# Altium schematic symbol library 7seg(LED).SchLib: 34 symbols
Pins are listed as number, name and electrical type; pins without a type are passive.

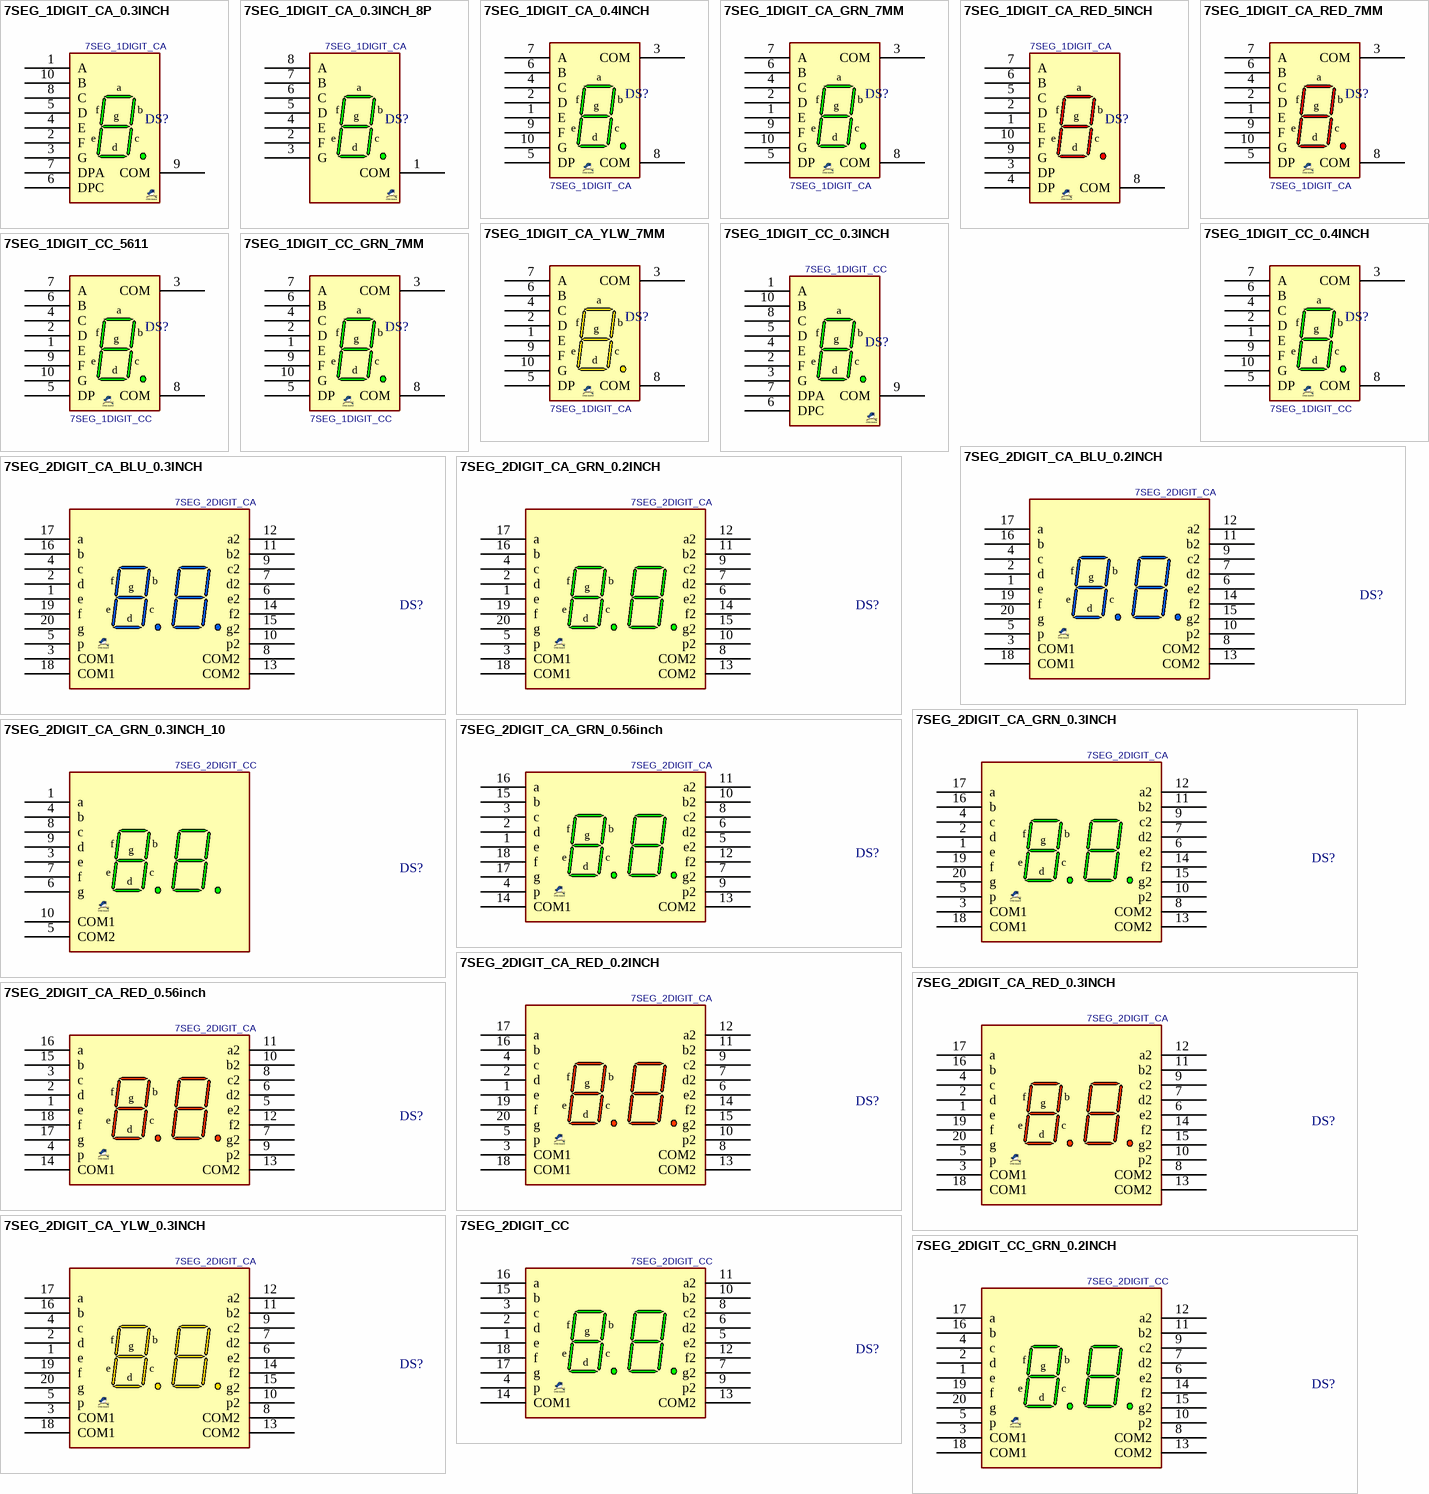
[diagram p0: symbols 7SEG_1DIGIT_CA_0.3INCH to 7SEG_2DIGIT_CC_GRN_0.2INCH]

## 7SEG_1DIGIT_CA_0.3INCH
designator DS?, comment 7SEG_1DIGIT_CA
7SEGMENT, 1DIGIT, common anode; MANF_P#: LA-301; VALUE: 7SEG_1DIGIT_CA
footprint 7SEGX1_10_2811 (7SEG single 10pin Pitch: 2.54mm  2811 0.28" 8X10mm)
pins: 1 A, 2 F, 3 G, 4 E, 5 D, 6 DPC, 7 DPA, 8 C, 9 COM, 10 B
2 alternate drawings of the same symbol

## 7SEG_1DIGIT_CA_0.3INCH_8P
designator DS?, comment 7SEG_1DIGIT_CA
7SEGMENT, 1DIGIT, common anode, 8pin; MANF_P#: 2811, 2181; VALUE: 7SEG_1DIGIT_CA
footprint 7SEGX1_8_2811 (7SEG single 8pin Pitch: 2.54mm  2811 0.28" 8X10mm)
pins: 1 COM, 2 F, 3 G, 4 E, 5 D, 6 C, 7 B, 8 A
2 alternate drawings of the same symbol

## 7SEG_1DIGIT_CA_0.4INCH
designator DS?, comment 7SEG_1DIGIT_CA
7SEGMENT, 1DIGIT, common Anode; VALUE: 7SEG_1DIGIT_CA
footprint 7SEGX1_10_3911 (7SEG single 10pin Pitch: 2.54mm  3911 0.39" 10X13mm)
pins: 1 E, 2 D, 3 COM, 4 C, 5 DP, 6 B, 7 A, 8 COM, 9 F, 10 G
2 alternate drawings of the same symbol

## 7SEG_1DIGIT_CA_GRN_7MM
designator DS?, comment 7SEG_1DIGIT_CA
7SEGMENT, 1DIGIT, common ANODE; MANF: Kingbright; MANF_P#: ACSA02-41SGWA-F01; PARAM: 20mA, 2.2v, -40~85oC; PRICE: 2.5$; VALUE: 7SEG_1DIGIT_CA
footprint 7SEGX1_10_02INCH (7SEG single 10pin Pitch: 1.44mm  0.2" 10X7mm)
pins: 1 E, 2 D, 3 COM, 4 C, 5 DP, 6 B, 7 A, 8 COM, 9 F, 10 G
2 alternate drawings of the same symbol

## 7SEG_1DIGIT_CA_RED_5INCH
designator DS?, comment 7SEG_1DIGIT_CA
7SEGMENT, 1DIGIT, common ANODE; MANF: Kingbright; MANF_P#: SA50-31SRWA, SA50-21EWA, SNS-50101BSR; PARAM2: 18.5~25VF; PARAM: 20mA, -40~85oC; PRICE: 30000t, 27$; VALUE: 7SEG_1DIGIT_CA
footprint 7SEGX1_5INCH (7SEG single 5INCH, 10pin, Pitch: 5.08mm, 180X108mm)
pins: 1 E, 2 D, 3 DP, 4 DP, 5 C, 6 B, 7 A, 8 COM, 9 G, 10 F
2 alternate drawings of the same symbol

## 7SEG_1DIGIT_CA_RED_7MM
designator DS?, comment 7SEG_1DIGIT_CA
7SEGMENT, 1DIGIT, common ANODE; MANF: Kingbright; MANF_P#: ACSC02-41SURKWA-F01, ACSA02-41SURKWA-F01, ACSA02-41EWA-F01; PARAM: 30mA, 2v, -40~85oC; PRICE: 2.5$; VALUE: 7SEG_1DIGIT_CA
footprint 7SEGX1_10_02INCH (7SEG single 10pin Pitch: 1.44mm  0.2" 10X7mm)
pins: 1 E, 2 D, 3 COM, 4 C, 5 DP, 6 B, 7 A, 8 COM, 9 F, 10 G
2 alternate drawings of the same symbol

## 7SEG_1DIGIT_CA_YLW_7MM
designator DS?, comment 7SEG_1DIGIT_CA
7SEGMENT, 1DIGIT, common ANODE; MANF: Kingbright; MANF_P#: ACSA02-41YWA-F01; PARAM: 20mA, 2.2v, -40~85oC; PRICE: 2.5$; VALUE: 7SEG_1DIGIT_CA
footprint 7SEGX1_10_02INCH (7SEG single 10pin Pitch: 1.44mm  0.2" 10X7mm)
pins: 1 E, 2 D, 3 COM, 4 C, 5 DP, 6 B, 7 A, 8 COM, 9 F, 10 G
2 alternate drawings of the same symbol

## 7SEG_1DIGIT_CC_0.3INCH
designator DS?, comment 7SEG_1DIGIT_CC
7SEGMENT, 1DIGIT, common cothode; VALUE: 7SEG_1DIGIT_CC
footprint 7SEGX1_10_2811 (7SEG single 10pin Pitch: 2.54mm  2811 0.28" 8X10mm)
pins: 1 A, 2 F, 3 G, 4 E, 5 D, 6 DPC, 7 DPA, 8 C, 9 COM, 10 B
2 alternate drawings of the same symbol

## 7SEG_1DIGIT_CC_0.4INCH
designator DS?, comment 7SEG_1DIGIT_CC
7SEGMENT, 1DIGIT, common cathode; VALUE: 7SEG_1DIGIT_CC
footprint 7SEGX1_10_3911 (7SEG single 10pin Pitch: 2.54mm  3911 0.39" 10X13mm)
pins: 1 E, 2 D, 3 COM, 4 C, 5 DP, 6 B, 7 A, 8 COM, 9 F, 10 G
2 alternate drawings of the same symbol

## 7SEG_1DIGIT_CC_5611
designator DS?, comment 7SEG_1DIGIT_CC
7SEGMENT, 1DIGIT, common cathode; VALUE: 7SEG_1DIGIT_CC
footprint 7SEGX1_5611 (7SEG single 10pin Pitch: 2.54mm  19X12.5mm)
pins: 1 E, 2 D, 3 COM, 4 C, 5 DP, 6 B, 7 A, 8 COM, 9 F, 10 G
2 alternate drawings of the same symbol

## 7SEG_1DIGIT_CC_GRN_7MM
designator DS?, comment 7SEG_1DIGIT_CC
7SEGMENT, 1DIGIT, common cathode; MANF: Kingbright; MANF_P#: ACSC02-41SGWA-F01, ACSC02-41CGKWA-F01; PARAM: 20mA, 2.2v, -40~85oC; PRICE: 2.5$; VALUE: 7SEG_1DIGIT_CC
footprint 7SEGX1_10_02INCH (7SEG single 10pin Pitch: 1.44mm  0.2" 10X7mm)
pins: 1 E, 2 D, 3 COM, 4 C, 5 DP, 6 B, 7 A, 8 COM, 9 F, 10 G
2 alternate drawings of the same symbol

## 7SEG_2DIGIT_CA_BLU_0.2INCH
designator DS?, comment 7SEG_2DIGIT_CA
7SEGMENT, 2DIGIT, common Anode; MANF: Kingbright; MANF_P#: ACDA02-41PBWA/A-F01; PARAM: 20mA, 3.2V, -40~85oC; PRICE: 7.6$; VALUE: 7SEG_2DIGIT_CA
footprint 7SEGX2_20_02INCH (7SEG 2DIGIT 20pin Pitch: 1.44mm  0.2", 14X10mm)
pins: 1 e, 2 d, 3 COM1, 4 c, 5 p, 6 e2, 7 d2, 8 COM2, 9 c2, 10 p2, 11 b2, 12 a2, 13 COM2, 14 f2, 15 g2, 16 b, 17 a, 18 COM1, 19 f, 20 g

## 7SEG_2DIGIT_CA_BLU_0.3INCH
designator DS?, comment 7SEG_2DIGIT_CA
7SEGMENT, 2DIGIT, common Anode; MANF: Kingbright; MANF_P#: ACDA03-41PBWA/A-F01; PARAM: 10~20mA, 2~2.2V, -40~85oC; PRICE: 7.6$; VALUE: 7SEG_2DIGIT_CA
footprint 7SEGX2_20_03INCH (7SEG 2DIGIT 20pin Pitch: 1.44mm  0.3", 14.8X12mm)
pins: 1 e, 2 d, 3 COM1, 4 c, 5 p, 6 e2, 7 d2, 8 COM2, 9 c2, 10 p2, 11 b2, 12 a2, 13 COM2, 14 f2, 15 g2, 16 b, 17 a, 18 COM1, 19 f, 20 g

## 7SEG_2DIGIT_CA_GRN_0.2INCH
designator DS?, comment 7SEG_2DIGIT_CA
7SEGMENT, 2DIGIT, common Anode; MANF: Kingbright; MANF_P#: ACDA02-41SGWA-F01; PARAM: 10~20mA, 2~2.2V, -40~85oC; PRICE: 3.3$; VALUE: 7SEG_2DIGIT_CA
footprint 7SEGX2_20_02INCH (7SEG 2DIGIT 20pin Pitch: 1.44mm  0.2", 14X10mm)
pins: 1 e, 2 d, 3 COM1, 4 c, 5 p, 6 e2, 7 d2, 8 COM2, 9 c2, 10 p2, 11 b2, 12 a2, 13 COM2, 14 f2, 15 g2, 16 b, 17 a, 18 COM1, 19 f, 20 g

## 7SEG_2DIGIT_CA_GRN_0.3INCH
designator DS?, comment 7SEG_2DIGIT_CA
7SEGMENT, 2DIGIT, common Anode; MANF: Kingbright; MANF_P#: ACDA03-41SGWA-F01; PARAM: 10~20mA, 2~2.2V, -40~85oC; PRICE: 5.8$; VALUE: 7SEG_2DIGIT_CA
footprint 7SEGX2_20_03INCH (7SEG 2DIGIT 20pin Pitch: 1.44mm  0.3", 14.8X12mm)
pins: 1 e, 2 d, 3 COM1, 4 c, 5 p, 6 e2, 7 d2, 8 COM2, 9 c2, 10 p2, 11 b2, 12 a2, 13 COM2, 14 f2, 15 g2, 16 b, 17 a, 18 COM1, 19 f, 20 g

## 7SEG_2DIGIT_CA_GRN_0.3INCH_10
designator DS?, comment 7SEG_2DIGIT_CC
7SEGMENT, 2DIGIT, common cathode; MANF: Kingbright; MANF_P#: DA03-11GWA; PARAM: 10~20mA, 2~2.2V, -40~85oC; PRICE: 1.8$; VALUE: 7SEG_2DIGIT_CC
footprint 7SEGX2_10_03INCH (7SEG 2DIGIT 10pin Pitch: 2.54mm  0.3", 15.5X15mm)
pins: 1 a, 3 e, 4 b, 5 COM2, 6 g, 7 f, 8 c, 9 d, 10 COM1

## 7SEG_2DIGIT_CA_GRN_0.56inch
designator DS?, comment 7SEG_2DIGIT_CA
7SEGMENT, 2DIGIT, common Anode; MANF: Broadcom, Avago, Lite-On, Kingbright; MANF_P#: HDSP-521G, LTD-6410G, DA56-11GWA; PARAM: 10~20mA, 2~2.2V, -35~85oC; PRICE: 2$; VALUE: 7SEG_2DIGIT_CA
footprint 7SEGX2_16 (7SEG 2DIGIT 16pin Pitch: 2.54mm    5621 0.56", 19X25mm)
pins: 1 e, 2 d, 3 c, 4 p, 5 e2, 6 d2, 7 g2, 8 c2, 9 p2, 10 b2, 11 a2, 12 f2, 13 COM2, 14 COM1, 15 b, 16 a, 17 g, 18 f

## 7SEG_2DIGIT_CA_RED_0.2INCH
designator DS?, comment 7SEG_2DIGIT_CA
7SEGMENT, 2DIGIT, common cathode; MANF: Kingbright; MANF_P#: ACDA02-41EWA-F01, ACDA02-41SURKWA-F01; PARAM: 10~20mA, 2~2.2V, -40~85oC; PRICE: 4.3$; VALUE: 7SEG_2DIGIT_CA
footprint 7SEGX2_20_02INCH (7SEG 2DIGIT 20pin Pitch: 1.44mm  0.2", 14X10mm)
pins: 1 e, 2 d, 3 COM1, 4 c, 5 p, 6 e2, 7 d2, 8 COM2, 9 c2, 10 p2, 11 b2, 12 a2, 13 COM2, 14 f2, 15 g2, 16 b, 17 a, 18 COM1, 19 f, 20 g

## 7SEG_2DIGIT_CA_RED_0.3INCH
designator DS?, comment 7SEG_2DIGIT_CA
7SEGMENT, 2DIGIT, common Anode; MANF: Kingbright; MANF_P#: ACDA03-41EWA-F01; PARAM: 10~20mA, 2~2.2V, -40~85oC; PRICE: 5.6$; VALUE: 7SEG_2DIGIT_CA
footprint 7SEGX2_20_03INCH (7SEG 2DIGIT 20pin Pitch: 1.44mm  0.3", 14.8X12mm)
pins: 1 e, 2 d, 3 COM1, 4 c, 5 p, 6 e2, 7 d2, 8 COM2, 9 c2, 10 p2, 11 b2, 12 a2, 13 COM2, 14 f2, 15 g2, 16 b, 17 a, 18 COM1, 19 f, 20 g

## 7SEG_2DIGIT_CA_RED_0.56inch
designator DS?, comment 7SEG_2DIGIT_CA
7SEGMENT, 2DIGIT, common Anode; MANF: Broadcom, Avago, Lite-On; MANF_P#: HDSP-521E, LTD-6910HR, LTD-6710P; PARAM: 10~20mA, 2~2.2V, -35~85oC; PRICE: 2$; VALUE: 7SEG_2DIGIT_CA
footprint 7SEGX2_16 (7SEG 2DIGIT 16pin Pitch: 2.54mm    5621 0.56", 19X25mm)
pins: 1 e, 2 d, 3 c, 4 p, 5 e2, 6 d2, 7 g2, 8 c2, 9 p2, 10 b2, 11 a2, 12 f2, 13 COM2, 14 COM1, 15 b, 16 a, 17 g, 18 f

## 7SEG_2DIGIT_CA_YLW_0.3INCH
designator DS?, comment 7SEG_2DIGIT_CA
7SEGMENT, 2DIGIT, common Anode; MANF: Kingbright; MANF_P#: ACDA03-41YWA-F01; PARAM: 10~20mA, 2~2.2V, -40~85oC; PRICE: 5.6$; VALUE: 7SEG_2DIGIT_CA
footprint 7SEGX2_20_03INCH (7SEG 2DIGIT 20pin Pitch: 1.44mm  0.3", 14.8X12mm)
pins: 1 e, 2 d, 3 COM1, 4 c, 5 p, 6 e2, 7 d2, 8 COM2, 9 c2, 10 p2, 11 b2, 12 a2, 13 COM2, 14 f2, 15 g2, 16 b, 17 a, 18 COM1, 19 f, 20 g

## 7SEG_2DIGIT_CC
designator DS?
7SEGMENT, 2DIGIT, common cathode; VALUE: 7SEG_2DIGIT_CC
footprint 7SEGX2_16 (7SEG 2DIGIT 16pin Pitch: 2.54mm    5621 0.56", 19X25mm)
pins: 1 e, 2 d, 3 c, 4 p, 5 e2, 6 d2, 7 g2, 8 c2, 9 p2, 10 b2, 11 a2, 12 f2, 13 COM2, 14 COM1, 15 b, 16 a, 17 g, 18 f

## 7SEG_2DIGIT_CC_GRN_0.2INCH
designator DS?, comment 7SEG_2DIGIT_CC
7SEGMENT, 2DIGIT, common cathode; MANF: Kingbright; MANF_P#: ACDC02-41SGWA-F01; PARAM: 10~20mA, 2~2.2V, -40~85oC; PRICE: 3.3$; VALUE: 7SEG_2DIGIT_CC
footprint 7SEGX2_20_02INCH (7SEG 2DIGIT 20pin Pitch: 1.44mm  0.2", 14X10mm)
pins: 1 e, 2 d, 3 COM1, 4 c, 5 p, 6 e2, 7 d2, 8 COM2, 9 c2, 10 p2, 11 b2, 12 a2, 13 COM2, 14 f2, 15 g2, 16 b, 17 a, 18 COM1, 19 f, 20 g

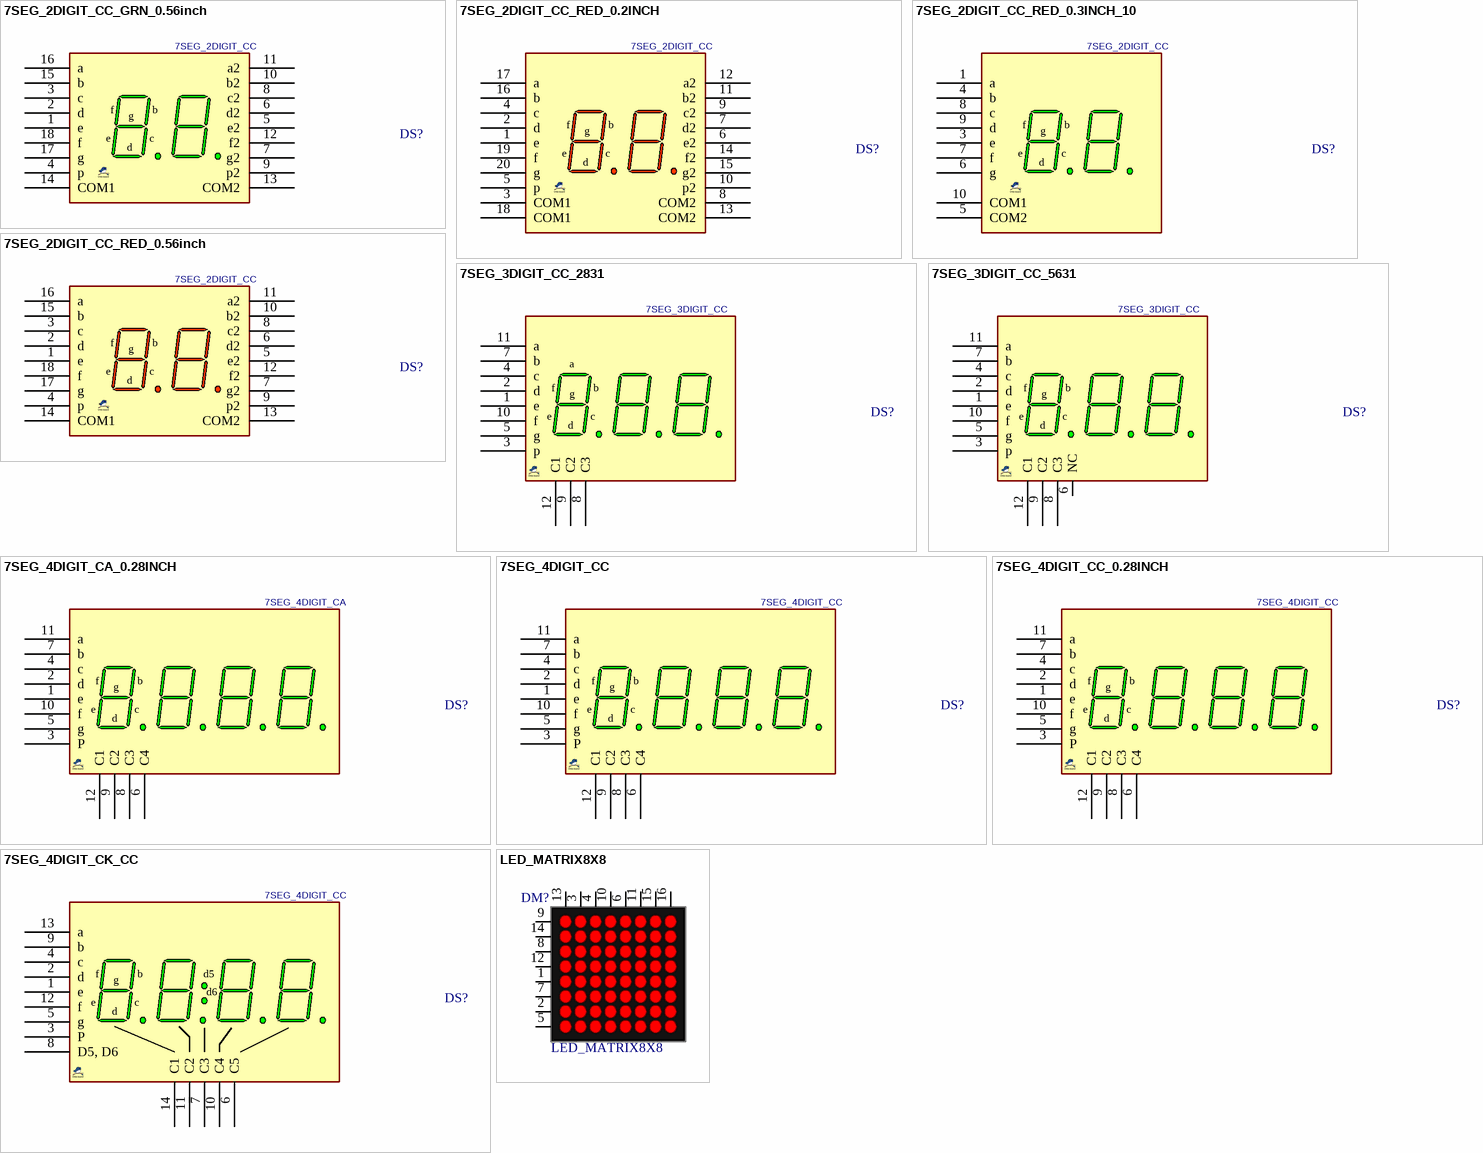
[diagram p1: symbols 7SEG_2DIGIT_CC_GRN_0.56inch to LED_MATRIX8X8]

## 7SEG_2DIGIT_CC_GRN_0.56inch
designator DS?, comment 7SEG_2DIGIT_CC
7SEGMENT, 2DIGIT, common cathode; MANF: Broadcom, Avago; MANF_P#: HDSP-523G; PARAM: 10~20mA, 2~2.2V, -35~85oC; PRICE: 2$; VALUE: 7SEG_2DIGIT_CC
footprint 7SEGX2_16 (7SEG 2DIGIT 16pin Pitch: 2.54mm    5621 0.56", 19X25mm)
pins: 1 e, 2 d, 3 c, 4 p, 5 e2, 6 d2, 7 g2, 8 c2, 9 p2, 10 b2, 11 a2, 12 f2, 13 COM2, 14 COM1, 15 b, 16 a, 17 g, 18 f

## 7SEG_2DIGIT_CC_RED_0.2INCH
designator DS?, comment 7SEG_2DIGIT_CC
7SEGMENT, 2DIGIT, common cathode; MANF: Kingbright; MANF_P#: ACDC02-41SURKWA-F01; PARAM: 10~20mA, 2~2.2V, -40~85oC; PRICE: 4.3$; VALUE: 7SEG_2DIGIT_CC
footprint 7SEGX2_20_02INCH (7SEG 2DIGIT 20pin Pitch: 1.44mm  0.2", 14X10mm)
pins: 1 e, 2 d, 3 COM1, 4 c, 5 p, 6 e2, 7 d2, 8 COM2, 9 c2, 10 p2, 11 b2, 12 a2, 13 COM2, 14 f2, 15 g2, 16 b, 17 a, 18 COM1, 19 f, 20 g

## 7SEG_2DIGIT_CC_RED_0.3INCH_10
designator DS?, comment 7SEG_2DIGIT_CC
7SEGMENT, 2DIGIT, common cathode; MANF: Kingbright; MANF_P#: DC03-11EWA; PARAM: 10~20mA, 2~2.2V, -40~85oC; PRICE: 1.8$; VALUE: 7SEG_2DIGIT_CC
footprint 7SEGX2_10_03INCH (7SEG 2DIGIT 10pin Pitch: 2.54mm  0.3", 15.5X15mm)
pins: 1 a, 3 e, 4 b, 5 COM2, 6 g, 7 f, 8 c, 9 d, 10 COM1

## 7SEG_2DIGIT_CC_RED_0.56inch
designator DS?, comment 7SEG_2DIGIT_CC
7SEGMENT, 2DIGIT, common cathode; MANF: Broadcom, Avago; MANF_P#: HDSP-523E; PARAM: 10~20mA, 2~2.2V, -35~85oC; PRICE: 2$; VALUE: 7SEG_2DIGIT_CC
footprint 7SEGX2_16 (7SEG 2DIGIT 16pin Pitch: 2.54mm    5621 0.56", 19X25mm)
pins: 1 e, 2 d, 3 c, 4 p, 5 e2, 6 d2, 7 g2, 8 c2, 9 p2, 10 b2, 11 a2, 12 f2, 13 COM2, 14 COM1, 15 b, 16 a, 17 g, 18 f

## 7SEG_3DIGIT_CC_2831
designator DS?, comment 7SEG_3DIGIT_CC
7SEGMENT, 3DIGIT, common cathode; VALUE: 7SEG_3DIGIT_CC
footprint 7SEGX3_12_2831 (7SEG single 12-1pin Pitch: 2.54mm  2831 0.28" 24X10X5.8mm)
pins: 1 e, 2 d, 3 p, 4 c, 5 g, 7 b, 8 C3, 9 C2, 10 f, 11 a, 12 C1

## 7SEG_3DIGIT_CC_5631
designator DS?, comment 7SEG_3DIGIT_CC
7SEGMENT, 3DIGIT, common cathode; VALUE: 7SEG_3DIGIT_CC
footprint 7SEGX3_12_5631 (7SEG 3DIGIT 5631 0.56", 12pin Pitch: 2.54mm, 19X37.5mm)
pins: 1 e, 2 d, 3 p, 4 c, 5 g, 6 NC, 7 b, 8 C3, 9 C2, 10 f, 11 a, 12 C1

## 7SEG_4DIGIT_CA_0.28INCH
designator DS?, comment 7SEG_4DIGIT_CA
7SEGMENT, 4DIGIT, common Anode 0.28"; MANF_P#: -; VALUE: 7SEG_4DIGIT_CA
footprint 7SEGX4_12_03INCH (7SEG 4DIGIT ,0.28", 12pin Pitch: 2.54mm, 10.2X32mm)
pins: 1 e, 2 d, 3 P, 4 c, 5 g, 6 C4, 7 b, 8 C3, 9 C2, 10 f, 11 a, 12 C1

## 7SEG_4DIGIT_CC
designator DS?
7SEGMENT, 4DIGIT, common cathode 5641; MANF_P#: DPY-4CK; VALUE: 7SEG_4DIGIT_CC
footprint 7SEGX4_12 (7SEG 4DIGIT 12pin Pitch: 2.54mm    5641 0.56", 19X50.3mm)
pins: 1 e, 2 d, 3 P, 4 c, 5 g, 6 C4, 7 b, 8 C3, 9 C2, 10 f, 11 a, 12 C1

## 7SEG_4DIGIT_CC_0.28INCH
designator DS?, comment 7SEG_4DIGIT_CC
7SEGMENT, 4DIGIT, common cathode 0.28"; MANF_P#: -; VALUE: 7SEG_4DIGIT_CC
footprint 7SEGX4_12_03INCH (7SEG 4DIGIT ,0.28", 12pin Pitch: 2.54mm, 10.2X32mm)
pins: 1 e, 2 d, 3 P, 4 c, 5 g, 6 C4, 7 b, 8 C3, 9 C2, 10 f, 11 a, 12 C1

## 7SEG_4DIGIT_CK_CC
designator DS?, comment 7SEG_4DIGIT_CC
7SEGMENT, 4DIGIT, common cathode 5641 for clock; MANF_P#: KW4-56NCLB-P; VALUE: 7SEG_4DIGIT_CC
footprint 7SEGX4_14 (7SEG 4DIGIT, clock 0.56", 14pin Pitch: 2.54mm, 19X50.3mm)
pins: 1 e, 2 d, 3 P, 4 c, 5 g, 6 C5, 7 C3, 8 D5, D6, 9 b, 10 C4, 11 C2, 12 f, 13 a, 14 C1
text: d5; d6

## LED_MATRIX8X8
designator DM?
VALUE: LED_MATRIX8X8
footprint MATRIX_8X8_3232 (Footprint not found)
footprint MATRIX_8X8_2020 (LED Dot Matrix 8x8 20mmx20mm)
footprint MATRIX_8X8_3838 (LED Dot Matrix 8x8 38mmx38mm)
pins: 1 R5, 2 R7, 3 C2, 4 C3, 5 R8, 6 C5, 7 R6, 8 R3, 9 R1, 10 C4, 11 C6, 12 R4, 13 C1, 14 R2, 15 C7, 16 C8